# EAGLE library part LT22 (library divers)
Transformer, 2 primary, 2 secondary coils
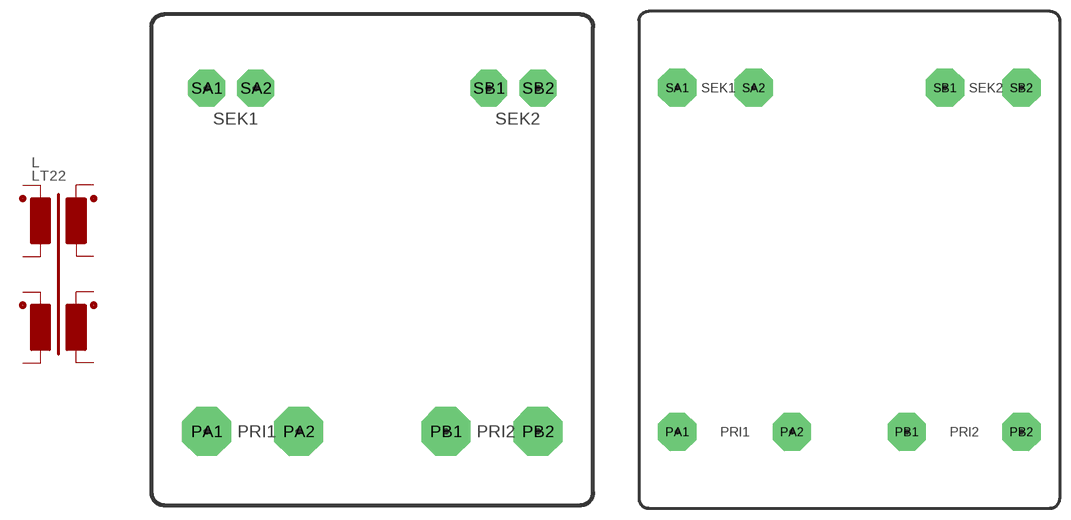
[diagram p1: symbol with the pads of LT22-3W; footprints LT22-3W, LT22-14W]

Designator prefix L

## LT22  [LT22-3W]
PA1  PA1  pas
PA2  PA2  pas
PB1  PB1  pas
PB2  PB2  pas
SA1  SA1  pas
SA2  SA2  pas
SB1  SB1  pas
SB2  SB2  pas

## LT22-14W  [LT22-14W]
Pads as for LT22-3W

## LT22-3W  [LT22-3W]
Pads as for LT22-3W

## LT22-11W  [LT22-11W]
Pads as for LT22-3W

## LT22-25VA  [LT22-25VA]
Pads as for LT22-3W

## Footprint LT22-3W (pad centres in mm)
Transformer, 2 primary, 2 secondary coils, 3VA
drill 1.194 pad 5.08 octagon: PA1 -17.78,-17.78; PA2 -8.255,-17.78; PB1 6.985,-17.78; PB2 16.51,-17.78
drill 1.194 pad 3.81 octagon: SA1 -17.78,17.78; SA2 -12.7,17.78; SB1 11.43,17.78; SB2 16.51,17.78

## Footprint LT22-14W (pad centres in mm)
Transformer, 2 primary, 2 secondary coils, 14VA
drill 1.194 pad 5.08 octagon: PA1 -22.86,-22.86; PA2 -7.62,-22.86; PB1 7.62,-22.86; PB2 22.86,-22.86; SA1 -22.86,22.86; SA2 -12.7,22.86; SB1 12.7,22.86; SB2 22.86,22.86

## Footprint LT22-11W (pad centres in mm)
drill 1.194 pad 5.08 octagon: PA1 -22.86,-22.86; PA2 -7.62,-22.86; PB1 2.54,-22.86; PB2 17.78,-22.86; SA1 -17.78,22.86; SA2 -7.62,22.86; SB1 7.62,22.86; SB2 17.78,22.86

## Footprint LT22-25VA (pad centres in mm)
Transformer, 2 primary, 2 secondary coils, 25VA
drill 1.194 pad 3.81 octagon: PA1 -25.4,-27.94; PA2 -20.32,-27.94; PB1 20.32,-27.94; PB2 25.4,-27.94; SA1 -27.94,27.94; SA2 -22.86,27.94; SB1 22.86,27.94; SB2 27.94,27.94
hole 4.064 at 0,0